# Altium schematic symbol library BNO055SCHEMATIC.SchLib: 2 symbols
Pins are listed as number, name and electrical type; pins without a type are passive.

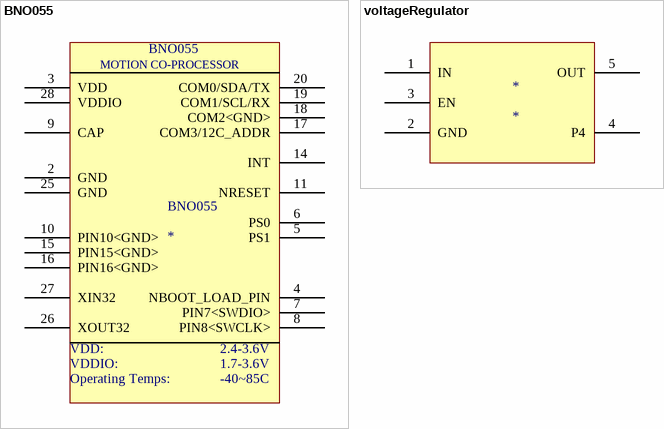
[diagram p0: symbols BNO055 to voltageRegulator]

## BNO055
designator BNO055
footprint SOIC127P980X95_HS-22N (SOIC, 21-Leads, Body 13.50x7.30mm, Pitch 1.27mm, Thermal Pad 12.00x6.00mm, IPC Medium Density)
pins: 2 GND, 3 VDD, 4 NBOOT_LOAD_PIN, 5 PS1, 6 PS0, 7 PIN7<SWDIO>, 8 PIN8<SWCLK>, 9 CAP, 10 PIN10<GND>, 11 NRESET, 14 INT, 15 PIN15<GND>, 16 PIN16<GND>, 17 COM3/12C_ADDR, 18 COM2<GND>, 19 COM1/SCL/RX, 20 COM0/SDA/TX, 25 GND, 26 XOUT32, 27 XIN32, 28 VDDIO
text: MOTION CO-PROCESSOR; VDD:; 2.4-3.6V; VDDIO:; 1.7-3.6V; Operating Temps:; -40~85C

## voltageRegulator
designator *
footprint SOT95P245X110-5N (SOT23, 5-Leads, Body 2.90x2.45mm, Pitch 0.95mm, IPC Medium Density)
pins: 1 IN, 2 GND, 3 EN, 4 P4, 5 OUT